# EAGLE library part TI_PCM1789 (library john_mamish_dacs_and_adcs)
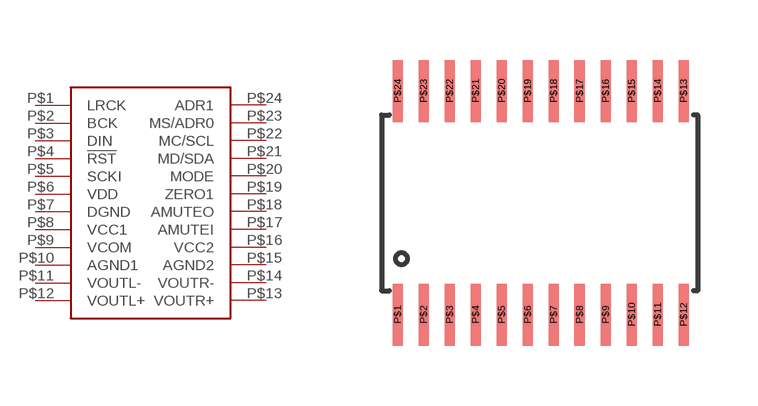
[diagram p2: symbol with the pads of TI_PW_TSSOP_24; footprint TI_PW_TSSOP_24]

Designator prefix -

## TI_PCM1789  [TI_PW_TSSOP_24]
P$1  LRCK
P$2  BCK
P$3  DIN
P$4  !RST!
P$5  SCKI
P$6  VDD
P$7  DGND
P$8  VCC1
P$9  VCOM
P$10  AGND1
P$11  VOUTL-
P$12  VOUTL+
P$13  VOUTR+
P$14  VOUTR-
P$15  AGND2
P$16  VCC2
P$17  AMUTEI
P$18  AMUTEO
P$19  ZERO1
P$20  MODE
P$21  MD/SDA
P$22  MC/SCL
P$23  MS/ADR0
P$24  ADR1

## Footprint TI_PW_TSSOP_24 (pad centres in mm)
smd 0.25 x 1.55: P$1 0,-5.6; P$2 0.65,-5.6; P$3 1.3,-5.6; P$4 1.95,-5.6; P$5 2.6,-5.6; P$6 3.25,-5.6; P$7 3.9,-5.6; P$8 4.55,-5.6; P$9 5.2,-5.6; P$10 5.85,-5.6; P$11 6.5,-5.6; P$12 7.15,-5.6; P$13 7.15,0; P$14 6.5,0; P$15 5.85,0; P$16 5.2,0; P$17 4.55,0; P$18 3.9,0; P$19 3.25,0; P$20 2.6,0; P$21 1.95,0; P$22 1.3,0; P$23 0.65,0; P$24 0,0